# EAGLE library part SFML-105-02-L-D-A (library SFML-105-02-L-D-A)
Check availability <https://pricing.snapeda.com/parts/SFML-105-02-L-D-A/Samtec/view-part?ref=eda>
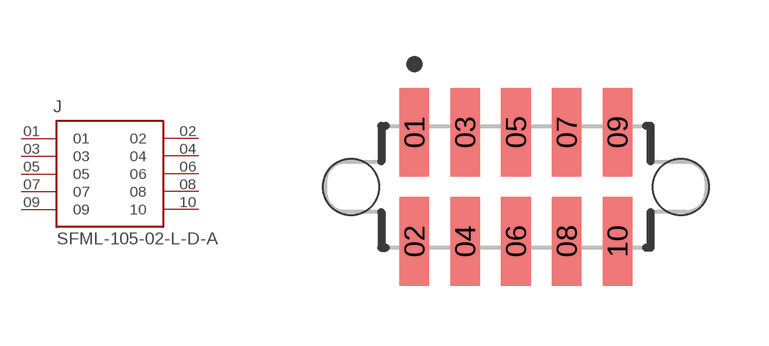
[diagram p0: symbol with the pads of SAMTEC_SFML-105-02-L-D-A; footprint SAMTEC_SFML-105-02-L-D-A]

Designator prefix J

## SFML-105-02-L-D-A (Availability: In Stock; Description: SFML - Samtec 1.27mm Tiger Eye High-Reliability Surface Mount Locking Socket; MF: Samtec; MP: SFML-105-02-L-D-A; Package: None; Price: None; Purchase-URL: https://pricing.snapeda.com/search/part/SFML-105-02-L-D-A/?ref=eda)  [SAMTEC_SFML-105-02-L-D-A]
01  01  pas
02  02  pas
03  03  pas
04  04  pas
05  05  pas
06  06  pas
07  07  pas
08  08  pas
09  09  pas
10  10  pas

## Footprint SAMTEC_SFML-105-02-L-D-A (pad centres in mm)
smd 0.74 x 2.22: 01 -2.54,1.365; 02 -2.54,-1.365; 03 -1.27,1.365; 04 -1.27,-1.365; 05 0,1.365; 06 0,-1.365; 07 1.27,1.365; 08 1.27,-1.365; 09 2.54,1.365; 10 2.54,-1.365
hole 1.4 at -4.13,0
hole 1.4 at 4.13,0